# Altium footprint library PcbLib1.PcbLib: 5 footprints
Each footprint in its own frame and in the unit in brackets; x right, y up, seen from the top. Pads: shape width x height; smd on the part's side, far side on the other; paste and mask are expansions set on the pad; w line width, h text height; cw(c..) or ccw(c..) is an arc to the next point about the centre after c.
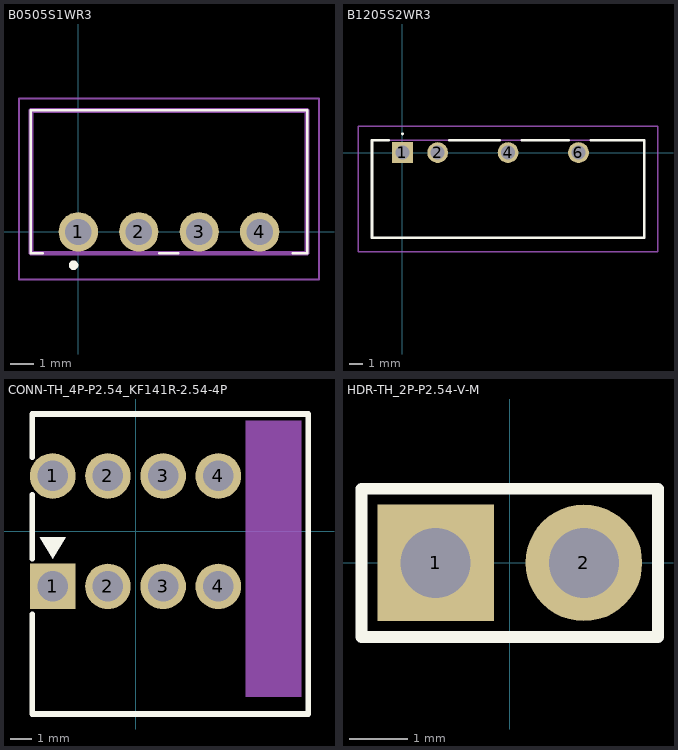
[diagram p0: the footprints below, top view; thin cyan lines are the x and y axes]

## B0505S1WR3 [mm]
pads (4):
  round 1.65 hole 1.1: 1(0,0) 2(2.54,0) 3(5.08,0) 4(7.62,0)
Top Overlay:
  lines w0.1: -1.5,-0.9 -2,-0.9 -1.99,5.1 9.61,5.1 9.61,-0.9 9,-0.9 ; 3.4,-0.9 4.2,-0.9
  lines w0.2: -0.3,-1.4 cw(c-0.2,-1.4) -0.1,-1.4 cw(c-0.2,-1.4) -0.3,-1.4
Mechanical 13:
  lines w0.2: -1.99,-0.9 9.61,-0.9 9.61,5.1 -1.99,5.1 -1.99,-0.9
Mechanical 15:
  lines w0.1: -2.49,-2 10.11,-2 10.11,5.6 -2.49,5.6 -2.49,-2
3D body "B0505S-1WR3.stp": height 10.08, standoff -4.18, extent -1.994,-0.827 9.614,5.167

## B1205S2WR3 [mm]
pads (4):
  rect 1.5x1.5 hole 1: 1(0,0)
  round 1.5 hole 1: 2(2.54,0) 4(7.62,0) 6(12.7,0)
Top Overlay:
  lines w0.1: 0,1.3 cw(c0,1.35) 0,1.4 cw(c0,1.35) 0,1.3
  lines w0.2: -1,0.9 -2.2,0.9 -2.2,-6.15 17.44,-6.15 17.44,0.9 13.6,0.9 ; 3.4,0.9 7,0.9 ; 8.6,0.9 12,0.9
Mechanical 13:
  lines w0.1: -2.21,-6.15 17.44,-6.15 17.44,0.9 -2.21,0.9 -2.21,-6.15
Mechanical 15:
  lines w0.1: -3.21,-7.15 18.44,-7.15 18.44,1.9 -3.21,1.9 -3.21,-7.15
3D body "B1205S-2WR3.stp": height 10.51, standoff -5, extent -2.21,-6.15 17.44,0.9

## CONN-TH_4P-P2.54_KF141R-2.54-4P [mm]
pads (8):
  rect 2.1x2.1 hole 1.4 paste-2539.97 mask+0.051: 1(-3.81,-2.54)
  round 2.1 hole 1.4 paste-2539.97 mask+0.051: 1(-3.81,2.54) 2(-1.27,-2.54) 2(-1.27,2.54) 3(1.27,-2.54) 3(1.27,2.54) 4(3.81,-2.54) 4(3.81,2.54)
Top Overlay:
  region: -3.81,-1.27 -3.21,-0.27 -4.41,-0.27
  lines w0.254: -4.76,-3.821 -4.76,-8.41 7.94,-8.41 7.94,5.39 -4.76,5.39 -4.76,3.398 ; -4.76,-1.259 -4.76,1.682
Mechanical 15:
  region: 5.08,5.08 5.08,-7.62 7.62,-7.62 7.62,5.08
3D body "3D_PCB4_2026-01-17.step": height 12.77, standoff -3.5, extent -4.8,-8.4 7.9,5.4

## HDR-TH_2P-P2.54-V-M [mm]
pads (2):
  rect 2x2 hole 1.2: 1(-1.27,0)
  round 2 hole 1.2: 2(1.27,0)
Top Overlay:
  lines w0.203: -2.54,-1.27 -2.54,1.27 -0.635,1.27 2.54,1.27 2.54,-1.27 -2.54,-1.27
Mechanical 15:
  region: -1.59,0.32 -0.95,0.32 -0.95,-0.32 -1.59,-0.32
  region: 0.95,0.32 1.59,0.32 1.59,-0.32 0.95,-0.32
  region: -2.48,-1.25 -2.48,-1.275 -2.515,-1.31 -2.565,-1.31 -2.6,-1.275 -2.6,-1.25 -2.6,-1.225 -2.565,-1.19 -2.515,-1.19 -2.48,-1.225 -2.48,-1.25
  lines w0.051: -2.54,-1.25 2.54,-1.25 2.54,1.25 -2.54,1.25 -2.54,-1.25
3D body "pls2.step": height 8.5, standoff -3, extent -2.54,-1.27 2.55,1.27

## PCBComponent_1 [mm]